# Altium schematic symbol library Connectors.SchLib: 33 symbols
Pins are listed as number, name and electrical type; pins without a type are passive.

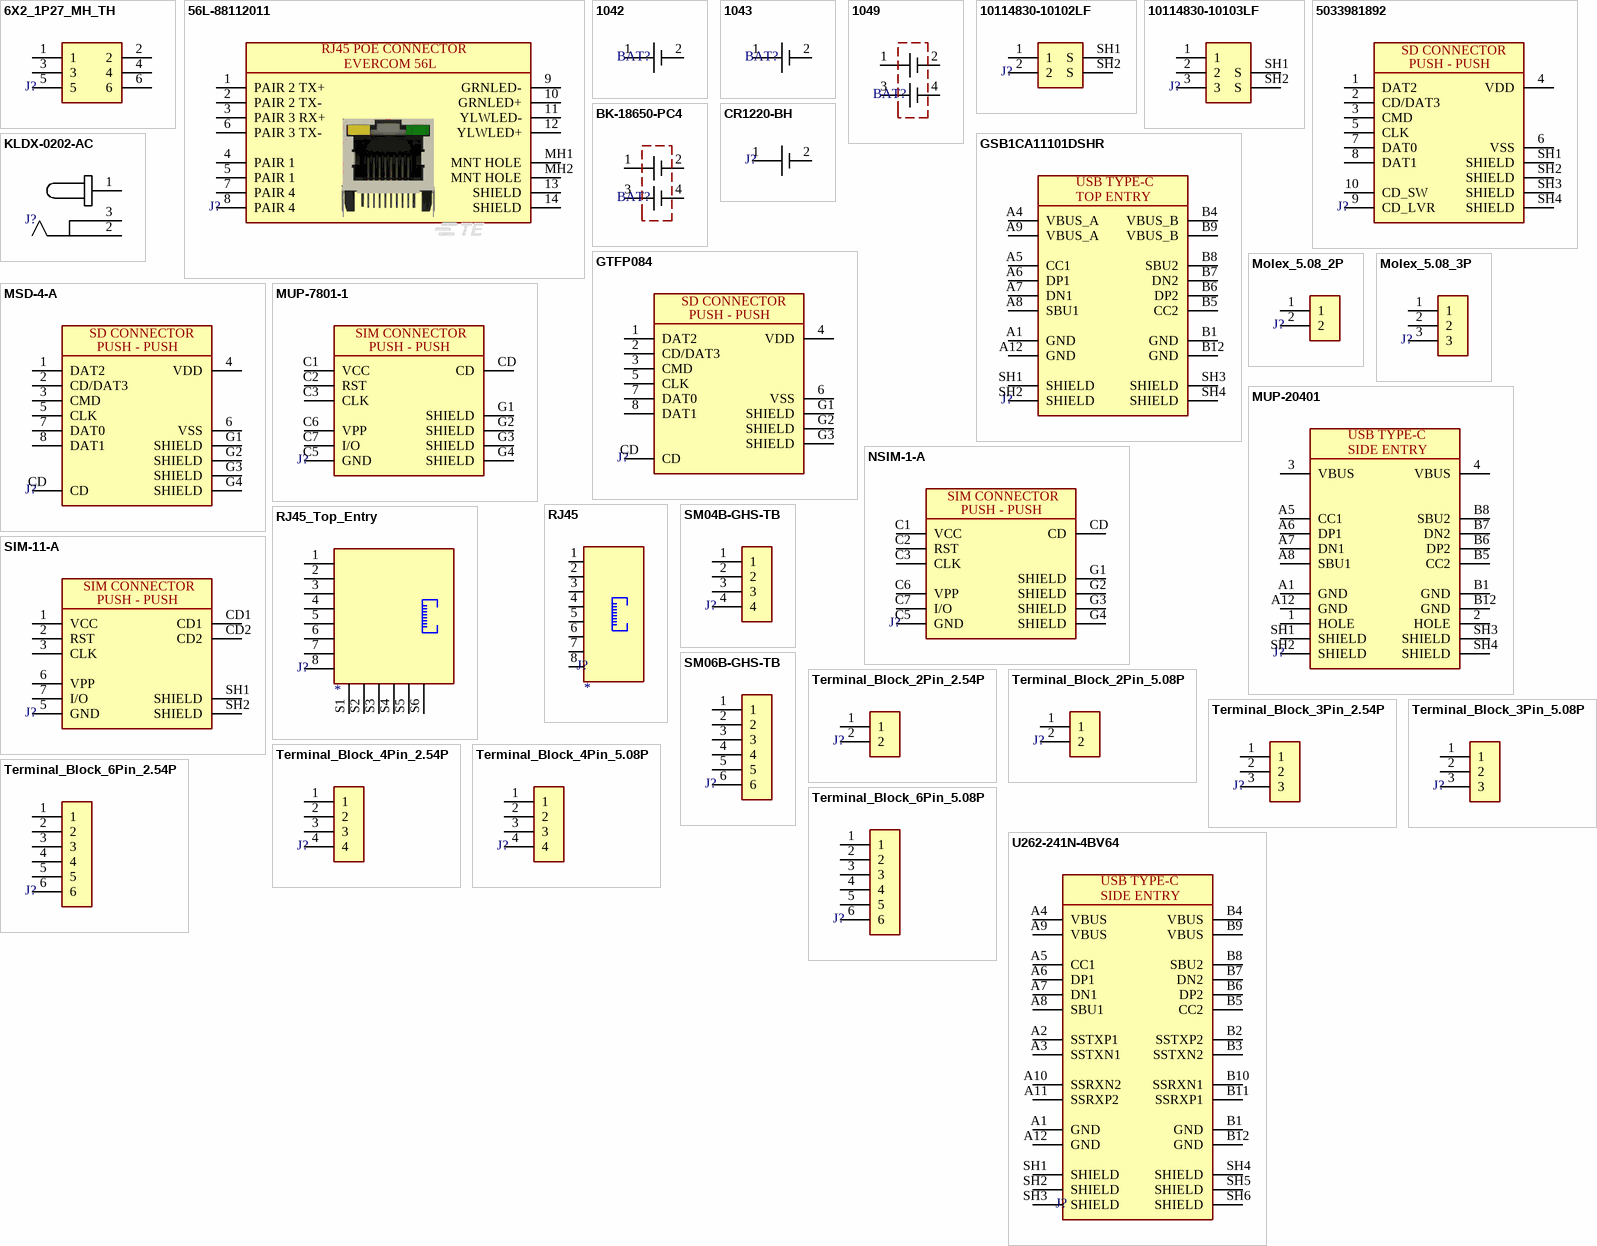
[diagram p0: symbols 6X2_1P27_MH_TH to U262-241N-4BV64]

## 6X2_1P27_MH_TH
designator J?
Manufacturer Part Number 1: *; Manufacturer 1: *; Value: *
footprint 6X2_1P27_MH_TH
pins: 1, 2, 3, 4, 5, 6

## 56L-88112011
designator J?
EVERCOM RJ45 JACK WITH SHIELDING AND LED Y/G RIGHT ANGLE; Manufacturer Part Number 1: 56L-88112011; Manufacturer 1: EVERCOM; Supplier Part Number 1: C19078598; Supplier 1: JLCPCB; Package: 8P8C; Value: *
footprint 56L-88112011 (EVERCOM RJ45 JACK WITH SHIELDING AND LED Y/G RIGHT ANGLE)
pins: 1 PAIR 2 TX+, 2 PAIR 2 TX-, 3 PAIR 3 RX+, 4 PAIR 1, 5 PAIR 1, 6 PAIR 3 TX-, 7 PAIR 4, 8 PAIR 4, 9 GRNLED-, 10 GRNLED+, 11 YLWLED-, 12 YLWLED+, 13 SHIELD, 14 SHIELD, MH1 MNT HOLE, MH2 MNT HOLE
text: RJ45 POE CONNECTOR; EVERCOM 56L

## 1042
designator BAT?
BATTERY HOLDER 18650 SMD; Manufacturer 1: Keystone Electronics; Manufacturer Part Number 1: 1042; Value: *
footprint 1042 (BATTERY HOLDER 18650 SMD)
pins: 1 +, 2 -

## 1043
designator BAT?
BATTERY HOLDER 18650 PC PIN
footprint 1043 (BATTERY HOLDER 18650 PC PIN)
pins: 1 +, 2 -

## 1049
designator BAT?
BATT HOLDER 18650 2 CELL PC PIN; Manufacturer 1: Keystone Electronics; Manufacturer Part Number 1: 1049; Value: *
footprint 1049 (Footprint not found)
pins: 1 +, 2 -, 3 +, 4 -

## 10114830-10102LF
designator J?
Sunrom 6205; Manufacturer Part Number 1: *; Manufacturer 1: *; Supplier Part Number 1: *; Supplier 1: *; Package: 6PIN
footprint 10114830-10102LF (Sunrom 6205)
pins: 1, 2, SH1 S, SH2 S

## 10114830-10103LF
designator J?
Sunrom 6206; Manufacturer Part Number 1: *; Manufacturer 1: *; Supplier Part Number 1: *; Supplier 1: *; Package: 6PIN
footprint 10114830-10103LF (Sunrom 6206)
pins: 1, 2, 3, SH1 S, SH2 S

## 5033981892
designator J?
9 (8 + 1) Position Card Connector Secure Digital - microSD™ Surface Mount, Right Angle Gold; Manufacturer Part Number 1: 5033981892; Manufacturer 1: Molex; Package: 9 (8+1); Value: *
footprint 5033981892 (9 (8 + 1) Position Card Connector Secure Digital - microSD™ Surface Mount, Right Angle Gold)
pins: 1 DAT2, 2 CD/DAT3, 3 CMD, 4 VDD, 5 CLK, 6 VSS (power), 7 DAT0, 8 DAT1, 9 CD_LVR (power), 10 CD_SW, SH1 SHIELD (power), SH2 SHIELD (power), SH3 SHIELD (power), SH4 SHIELD (power)
text: SD CONNECTOR; PUSH - PUSH

## BK-18650-PC4
designator BAT?
BATT HOLDER 18650 2 CELL PC PIN; Manufacturer 1: MPD; Manufacturer Part Number 1: BK-18650-PC4; Value: *; Supplier 1: *; Supplier Part Number 1: *
footprint BK-18650-PC4 (2X 18650 Through Hole Battery Holder)
pins: 1 +, 2 -, 3 +, 4 -

## CR1220-BH
designator J?
BATTERY HOLDER COIN 12.5MM SMD; Manufacturer 1: Keystone Electronics; Value: *; Manufacturer Part Number 1: *
footprint CR1220-BH (BATTERY HOLDER COIN 12.5MM SMD)
pins: 1 +, 2 -

## GSB1CA11101DSHR
designator J?
USB-C (USB TYPE-C) USB 2.0 Receptacle Connector 24 (16+8 Dummy) Position Surface Mount, Through Hole; Manufacturer 1: Amphenol ICC (Commercial Products); Manufacturer Part Number 1: *; Package: 24 (16+8 Dummy); Value: *
footprint GSB1CA11101DSHR (USB-C (USB TYPE-C) USB 2.0 Receptacle Connector 24 (16+8 Dummy) Position Surface Mount, Through Hole)
pins: A1 GND (power), A4 VBUS_A (power), A5 CC1, A6 DP1, A7 DN1, A8 SBU1, A9 VBUS_A (power), A12 GND (power), B1 GND (power), B4 VBUS_B (power), B5 CC2, B6 DP2, B7 DN2, B8 SBU2, B9 VBUS_B (power), B12 GND (power), SH1 SHIELD, SH2 SHIELD, SH3 SHIELD, SH4 SHIELD
text: USB TYPE-C; TOP ENTRY

## GTFP084
designator J?
9 (8 + 1) Position Card Connector Secure Digital - microSD™ Surface Mount, Right Angle Gold; Manufacturer 1: Same Sky; Manufacturer Part Number 1: *; Package: 9 (8+1); Value: *
footprint GTFP084 (9 (8 + 1) Position Card Connector Secure Digital - microSD™ Surface Mount, Right Angle Gold)
pins: 1 DAT2, 2 CD/DAT3, 3 CMD, 4 VDD, 5 CLK, 6 VSS (power), 7 DAT0, 8 DAT1, CD, G1 SHIELD (power), G2 SHIELD (power), G3 SHIELD (power)
text: SD CONNECTOR; PUSH - PUSH

## KLDX-0202-AC
designator J?
CONN PWR JACK 2X5.5MM KINKED PIN; Value: *; Manufacturer 1: *; Manufacturer Part Number 1: *
footprint KLDX-0202-AC (CONN PWR JACK 2X5.5MM KINKED PIN)
pins: 1, 2, 3

## Molex_5.08_2P
designator J?
Molex 7A 5.08mm Connector 2 Pin; Manufacturer Part Number 1: *; Manufacturer 1: *; Value: *
footprint Molex_5.08_2P
pins: 1, 2

## Molex_5.08_3P
designator J?
Molex 7A 5.08mm Connector 3 Pin; Manufacturer Part Number 1: *; Manufacturer 1: *; Value: *
footprint Molex_5.08_3P
pins: 1, 2, 3

## MSD-4-A
designator J?
9 (8 + 1) Position Card Connector microSD™ Surface Mount, Right Angle Gold; Manufacturer 1: Same Sky; Manufacturer Part Number 1: *; Package: 9 (8+1); Value: *
footprint MSD-4-A (9 (8 + 1) Position Card Connector microSD™ Surface Mount, Right Angle Gold)
pins: 1 DAT2, 2 CD/DAT3, 3 CMD, 4 VDD, 5 CLK, 6 VSS (power), 7 DAT0, 8 DAT1, CD, G1 SHIELD (power), G2 SHIELD (power), G3 SHIELD (power), G4 SHIELD (power)
text: SD CONNECTOR; PUSH - PUSH

## MUP-7801-1
designator J?
7 (6 + 1) Position Card Connector NANO SIM Surface Mount, Right Angle Gold; Manufacturer 1: MUP; Manufacturer Part Number 1: *; Package: 7 (6 + 1); Value: *
footprint MUP-7801-1
pins: C1 VCC (power), C2 RST, C3 CLK, C5 GND (power), C6 VPP (power), C7 I/O, CD, G1 SHIELD (power), G2 SHIELD (power), G3 SHIELD (power), G4 SHIELD (power)
text: SIM CONNECTOR; PUSH - PUSH

## MUP-20401
designator J?
USB Type-C Connector Receptacle SMT 16Pin L7.35 / Reference: USB4105-GF-A; Manufacturer 1: Amphenol ICC (Commercial Products); Manufacturer Part Number 1: *; Package: 24 (16+8 Dummy); Value: *
footprint MUP-20401-1 (MUP-U20401-1 - USB Type-C Connector Receptacle SMT 16Pin L7.35)
pins: 1 HOLE (power), 2 HOLE (power), 3 VBUS (power), 4 VBUS (power), A1 GND (power), A5 CC1, A6 DP1, A7 DN1, A8 SBU1, A12 GND (power), B1 GND (power), B5 CC2, B6 DP2, B7 DN2, B8 SBU2, B12 GND (power), SH1 SHIELD, SH2 SHIELD, SH3 SHIELD, SH4 SHIELD
text: USB TYPE-C; SIDE ENTRY

## NSIM-1-A
designator J?
7 (6 + 1) Position Card Connector NANO SIM Surface Mount, Right Angle Gold; Manufacturer 1: Same Sky; Manufacturer Part Number 1: *; Package: 7 (6 + 1); Value: *
footprint NSIM-1-A (7 (6 + 1) Position Card Connector NANO SIM Surface Mount, Right Angle Gold)
pins: C1 VCC (power), C2 RST, C3 CLK, C5 GND (power), C6 VPP (power), C7 I/O, CD, G1 SHIELD (power), G2 SHIELD (power), G3 SHIELD (power), G4 SHIELD (power)
text: SIM CONNECTOR; PUSH - PUSH

## RJ45
designator J?, comment ERP_148-3  (value not drawn)
CONN MOD JACK 8P8C R/A UNSHLD; Manufacturer Part Number 1: *; Manufacturer 1: *; Supplier Part Number 1: *; Supplier 1: *; ERP: *; Package: 8P8C; Value: *
footprint RJ45
pins: 1, 2, 3, 4, 5, 6, 7, 8

## RJ45_Top_Entry
designator J?, comment ERP_148-3  (value not drawn)
PCB-009 Robu; Manufacturer Part Number 1: *; Manufacturer 1: *; Supplier Part Number 1: 1883509; Supplier 1: Robu; ERP: *; Package: 8P8C; Value: *
footprint PCB-009
pins: 1, 2, 3, 4, 5, 6, 7, 8, S1, S2, S3, S4, S5, S6

## SIM-11-A
designator J?
8 (6 + 2) Position Card Connector SIM Card Surface Mount, Right Angle Gold; Manufacturer 1: Same Sky; Manufacturer Part Number 1: *; Package: 8 (6 + 2); Value: *
footprint SIM-11-A (Footprint not found)
pins: 1 VCC (power), 2 RST, 3 CLK, 5 GND (power), 6 VPP (power), 7 I/O, CD1, CD2, SH1 SHIELD (power), SH2 SHIELD (power)
text: SIM CONNECTOR; PUSH - PUSH

## SM04B-GHS-TB
designator J?
JST GH 4 PIN; Manufacturer Part Number 1: *; Manufacturer 1: *; Value: *; Supplier 1: *; Supplier Part Number 1: *
footprint SM04B-GHS-TB
pins: 1, 2, 3, 4

## SM06B-GHS-TB
designator J?
JST GH 6 PIN; Manufacturer Part Number 1: *; Manufacturer 1: *; Value: *; Supplier 1: *; Supplier Part Number 1: *
footprint SM06B-GHS-TB
pins: 1, 2, 3, 4, 5, 6

## Terminal_Block_2Pin_2.54P
designator J?
2PIN TERMINAL BLOCK 2.54 PITCH; Manufacturer Part Number 1: WJ500V-5.08-2P; Manufacturer 1: Ningbo Kangnex Elec; Supplier Part Number 1: C8465; Supplier 1: JLCPCB; Value: *; Package: Plugin,P=5.08mm
footprint 2P_TB_2.54P_RA
pins: 1, 2

## Terminal_Block_2Pin_5.08P
designator J?
1x2P 2 2.5 250V 2P 5.08mm Green M2.5 Through Hole Plugin,P=5.08mm Screw Terminal Blocks ROHS; Manufacturer Part Number 1: WJ500V-5.08-2P; Manufacturer 1: Ningbo Kangnex Elec; Supplier Part Number 1: C8465; Supplier 1: JLCPCB; Value: *; Package: Plugin,P=5.08mm
footprint 2Pin_TerminalBlock_5.08P
pins: 1, 2

## Terminal_Block_3Pin_2.54P
designator J?
3PIN TERMINAL BLOCK 2.54 PITCH; Manufacturer Part Number 1: *; Manufacturer 1: *; Value: *
footprint Terminal_Block_3Pin_2.54P
pins: 1, 2, 3

## Terminal_Block_3Pin_5.08P
designator J?
3PINS TERMINAL BLOCK 5.08 PITCH; Manufacturer Part Number 1: *; Manufacturer 1: *; Supplier Part Number 1: *; Supplier 1: *; ERP: *; Package: 6PIN
footprint 3Pin_TerminalBlock_5.08P
footprint TB_PLUG_5.08P_3P
pins: 1, 2, 3

## Terminal_Block_4Pin_2.54P
designator J?
4PIN TERMINAL BLOCK 2.54 PITCH; Manufacturer Part Number 1: *; Manufacturer 1: *; Package: *; Supplier 1: *; Supplier Part Number 1: *
footprint Terminal_Block_4Pin_2.54P
footprint 4P_TB_2.54P_RA
pins: 1, 2, 3, 4

## Terminal_Block_4Pin_5.08P
designator J?
4PINS TERMINAL BLOCK 5.08 PITCH; Manufacturer Part Number 1: *; Manufacturer 1: *; Supplier Part Number 1: *; Supplier 1: *; ERP: *; Package: 6PIN
footprint 4Pin_TerminalBlock_5.08P
footprint TB_PLUG_5.08P_4P
pins: 1, 2, 3, 4

## Terminal_Block_6Pin_2.54P
designator J?
6PINS TERMINAL BLOCK 2.54 PITCH; Manufacturer Part Number 1: *; Manufacturer 1: *; Supplier Part Number 1: *; Supplier 1: *; Package: 6PIN
footprint 6P_TB_2.54P_RA
pins: 1, 2, 3, 4, 5, 6

## Terminal_Block_6Pin_5.08P
designator J?
6PINS TERMINAL BLOCK 5.08 PITCH; Manufacturer Part Number 1: *; Manufacturer 1: *; Supplier Part Number 1: *; Supplier 1: *; ERP: *; Package: 6PIN
footprint 6Pin_TerminalBlock_5.08P
pins: 1, 2, 3, 4, 5, 6

## U262-241N-4BV64
designator J?
-40℃~+85℃ 1 24P 5A Female Type-C SMD USB Connectors ROHS; Manufacturer Part Number 1: U262-241N-4BV64; Manufacturer 1: XKB Connection; Package: SMD; Supplier 1: *; Supplier Part Number 1: *
footprint U262-241N-4BV64 (-40?~+85? 1 24P 5A Female Type-C SMD USB Connectors ROHS)
pins: A1 GND (power), A2 SSTXP1 (power), A3 SSTXN1 (power), A4 VBUS (power), A5 CC1, A6 DP1, A7 DN1, A8 SBU1, A9 VBUS (power), A10 SSRXN2 (power), A11 SSRXP2 (power), A12 GND (power), B1 GND (power), B2 SSTXP2 (power), B3 SSTXN2 (power), B4 VBUS (power), B5 CC2, B6 DP2, B7 DN2, B8 SBU2, B9 VBUS (power), B10 SSRXN1 (power), B11 SSRXP1 (power), B12 GND (power), SH1 SHIELD, SH2 SHIELD, SH3 SHIELD, SH4 SHIELD, SH5 SHIELD, SH6 SHIELD
text: USB TYPE-C; SIDE ENTRY